# Altium footprint library SparkFun-RF.PCBLIB: 87 footprints (part 3 of 6)
Each footprint in its own frame and in the unit in brackets; x right, y up, seen from the top. Pads: shape width x height; smd on the part's side, far side on the other; paste and mask are expansions set on the pad; w line width, h text height; cw(c..) or ccw(c..) is an arc to the next point about the centre after c.
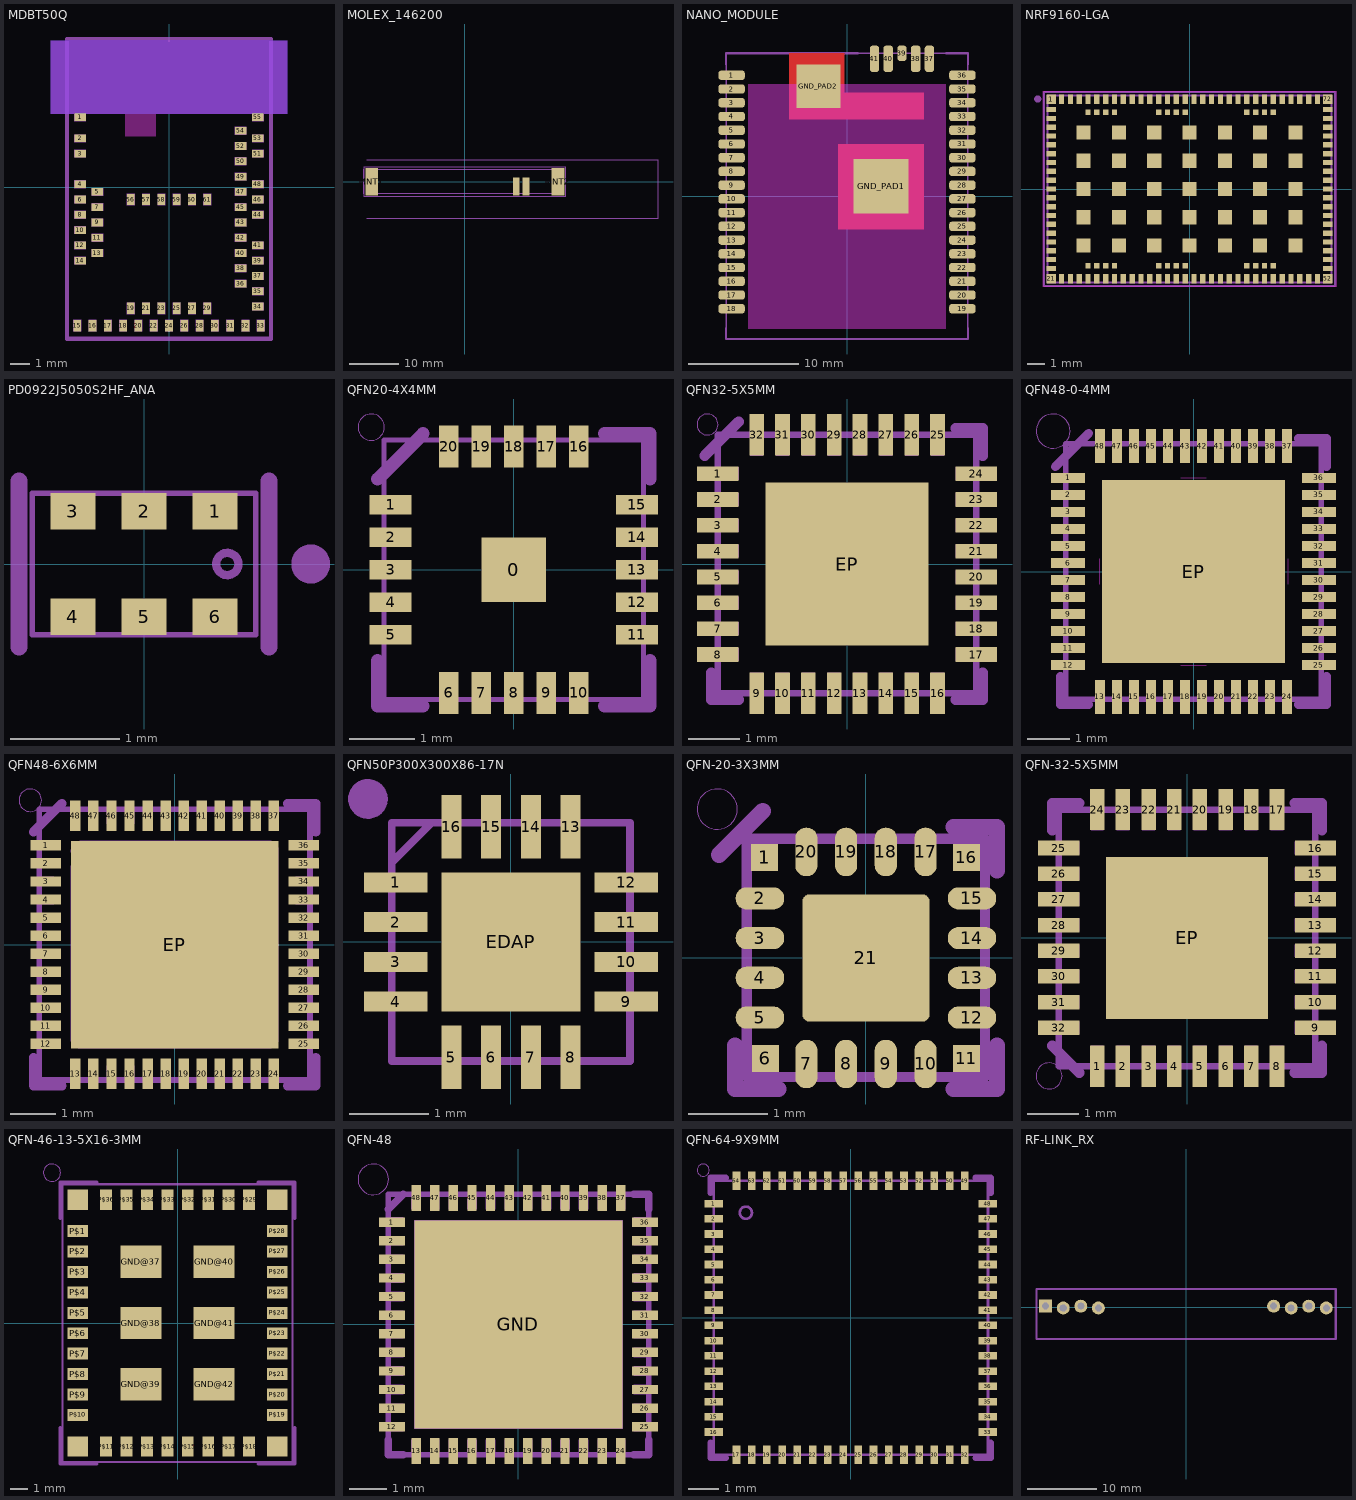
[diagram p2: the footprints below, top view; thin cyan lines are the x and y axes]

## MDBT50Q [mm]
pads (61):
  rect 0.6x0.4 smd: 1(-4.65,3.65) 2(-4.65,2.55) 3(-4.65,1.75) 4(-4.65,0.15) 5(-3.75,-0.25) 6(-4.65,-0.65) 7(-3.75,-1.05) 8(-4.65,-1.45) 9(-3.75,-1.85) 10(-4.65,-2.25) 11(-3.75,-2.65) 12(-4.65,-3.05) 13(-3.75,-3.45) 14(-4.65,-3.85) 34(4.65,-6.25) 35(4.65,-5.45) 36(3.75,-5.05) 37(4.65,-4.65) 38(3.75,-4.25) 39(4.65,-3.85) 40(3.75,-3.45) 41(4.65,-3.05) 42(3.75,-2.65) 43(3.75,-1.85) 44(4.65,-1.45) 45(3.75,-1.05) 46(4.65,-0.65) 47(3.75,-0.25) 48(4.65,0.15) 49(3.75,0.55) 50(3.75,1.35) 51(4.65,1.75) 52(3.75,2.15) 53(4.65,2.55) 54(3.75,2.95) 55(4.65,3.65)
  rect 0.4x0.6 smd: 15(-4.8,-7.25) 16(-4,-7.25) 17(-3.2,-7.25) 18(-2.4,-7.25) 19(-2,-6.35) 20(-1.6,-7.25) 21(-1.2,-6.35) 22(-0.8,-7.25) 23(-0.4,-6.35) 24(0,-7.25) 25(0.4,-6.35) 26(0.8,-7.25) 27(1.2,-6.35) 28(1.6,-7.25) 29(2,-6.35) 30(2.4,-7.25) 31(3.2,-7.25) 32(4,-7.25) 33(4.8,-7.25) 56(-2,-0.65) 57(-1.2,-0.65) 58(-0.4,-0.65) 59(0.4,-0.65) 60(1.2,-0.65) 61(2,-0.65)
Top keep-out:
  region: -6.2,3.85 -6.2,7.65 6.2,7.65 6.2,3.85
  region: -2.3,2.65 -2.3,3.85 -0.7,3.85 -0.7,2.65
Bottom keep-out:
  region: -6.2,3.85 -6.2,7.65 6.2,7.65 6.2,3.85
tDocu:
  drawing of 65 lines, arcs and shapes, not listed
tPlace:
  lines w0.203: -5.35,-7.95 -5.35,7.75 5.35,7.75 5.35,-7.95 -5.35,-7.95

## MOLEX_146200 [mm]
pads (4):
  rect 1.4x3.7 smd: FEED(12.5,-0.95) GND(10.5,-0.95)
  rect 2.6x5.6 smd: MNT1(-19,0) MNT2(19,0)
tDocu:
  lines w0.003: -20.6,-2.5 -20.6,2.5 ; -20,-7.5 39.42,-7.5 ; -20,4.5 39.42,4.5 ; 39.42,-7.427 39.42,4.5 ; 39.42,4.506 39.42,4.5 ; -20,-2.5 -20,2.5 20,2.5 20,-2.5 -20,-2.5
  text "GND KEEPOUT" at 0,-7.5 h0.94
  text "BD Edge" at -20.6,0 h0.94
  text "Board Edge" at 0,4.5 h0.94
  text "GND KEEPOUT" at 29.845,-0.896 h0.94
tPlace:
  lines w0.203: -20.533,-3.034 20.533,-3.034 20.533,3.034 -20.533,3.034 -20.533,-3.034

## NANO_MODULE [mm]
pads (43):
  rrect60% 2.4x0.85 smd: 1(-10.5,11) 2(-10.5,9.75) 3(-10.5,8.5) 4(-10.5,7.25) 5(-10.5,6) 6(-10.5,4.75) 7(-10.5,3.5) 8(-10.5,2.25) 9(-10.5,1) 10(-10.5,-0.25) 11(-10.5,-1.5) 12(-10.5,-2.75) 13(-10.5,-4) 14(-10.5,-5.25) 15(-10.5,-6.5) 16(-10.5,-7.75) 17(-10.5,-9) 18(-10.5,-10.25) 19(10.5,-10.25) 20(10.5,-9) 21(10.5,-7.75) 22(10.5,-6.5) 23(10.5,-5.25) 24(10.5,-4) 25(10.5,-2.75) 26(10.5,-1.5) 27(10.5,-0.25) 28(10.5,1) 29(10.5,2.25) 30(10.5,3.5) 31(10.5,4.75) 32(10.5,6) 33(10.5,7.25) 34(10.5,8.5) 35(10.5,9.75) 36(10.5,11)
  rrect60% 0.85x2.4 smd: 37(7.5,12.5) 38(6.25,12.5) 40(3.75,12.5) 41(2.5,12.5)
  rrect60% 0.85x1.4 smd: 39(5,13)
  rect 5x5 smd paste+0 mask+0: GND_PAD1(3.1,0.9)
  rect 4x4 smd paste+0 mask+0: GND_PAD2(-2.6,10)
Top:
  region: -0.8,4.7 7,4.7 7,-3 -0.8,-3
  region: -5.25,13 -0.25,13 -0.25,9.4 7,9.4 7,7 -5.25,7
Top keep-out:
  region: -9,-12.065 -9,10.16 9,10.16 9,-12.065
Top Paste:
  drawing of 49 lines, arcs and shapes, not listed
Top Solder:
  region: -1,-3.2 -1,4.9 7.2,4.9 7.2,-3.2
  region: -5.4,13.2 -0.1,13.2 -0.1,9.6 7.1,9.6 7.1,6.9 -5.4,6.9
tDocu:
  lines w0.127: -5.25,13 -11,13 -11,-13 11,-13 11,13 -0.25,13
  lines w0.203: -5.25,13 -0.25,13
  text "M6E-NANO" at 0,-7.7 h1.97
  text "ThingMagic" at 0,-5.97 h1.97
tPlace:
  lines w0.203: -11,-12 -11,-13 11,-13 11,-12 ; -11,12 -11,13 1,13 ; 9,13 11,13 11,12

## NRF9160-LGA [mm]
pads (161):
  rect 0.54x0.54 smd paste+0 mask+0: 1(-7.845,5.095) 21(-7.845,-5.095) 52(7.845,-5.095) 72(7.845,5.095)
  rect 0.54x0.3 smd mask+0: 2(-7.845,4.5) 3(-7.845,4) 4(-7.845,3.5) 5(-7.845,3) 6(-7.845,2.5) 7(-7.845,2) 8(-7.845,1.5) 9(-7.845,1) 10(-7.845,0.5) 11(-7.845,0) 12(-7.845,-0.5) 13(-7.845,-1) 14(-7.845,-1.5) 15(-7.845,-2) 16(-7.845,-2.5) 17(-7.845,-3) 18(-7.845,-3.5) 19(-7.845,-4) 20(-7.845,-4.5) 53(7.845,-4.5) 54(7.845,-4) 55(7.845,-3.5) 56(7.845,-3) 57(7.845,-2.5) 58(7.845,-2) 59(7.845,-1.5) 60(7.845,-1) 61(7.845,-0.5) 62(7.845,0) 63(7.845,0.5) 64(7.845,1) 65(7.845,1.5) 66(7.845,2) 67(7.845,2.5) 68(7.845,3) 69(7.845,3.5) 70(7.845,4) 71(7.845,4.5)
  rect 0.3x0.54 smd mask+0: 22(-7.25,-5.095) 23(-6.75,-5.095) 24(-6.25,-5.095) 25(-5.75,-5.095) 26(-5.25,-5.095) 27(-4.75,-5.095) 28(-4.25,-5.095) 29(-3.75,-5.095) 30(-3.25,-5.095) 31(-2.75,-5.095) 32(-2.25,-5.095) 33(-1.75,-5.095) 34(-1.25,-5.095) 35(-0.75,-5.095) 36(-0.25,-5.095) 37(0.25,-5.095) 38(0.75,-5.095) 39(1.25,-5.095) 40(1.75,-5.095) 41(2.25,-5.095) 42(2.75,-5.095) 43(3.25,-5.095) 44(3.75,-5.095) 45(4.25,-5.095) 46(4.75,-5.095) 47(5.25,-5.095) 48(5.75,-5.095) 49(6.25,-5.095) 50(6.75,-5.095) 51(7.25,-5.095) 73(7.25,5.095) 74(6.75,5.095) 75(6.25,5.095) 76(5.75,5.095) 77(5.25,5.095) 78(4.75,5.095) 79(4.25,5.095) 80(3.75,5.095) 81(3.25,5.095) 82(2.75,5.095) 83(2.25,5.095) 84(1.75,5.095) 85(1.25,5.095) 86(0.75,5.095) 87(0.25,5.095) 88(-0.25,5.095) 89(-0.75,5.095) 90(-1.25,5.095) 91(-1.75,5.095) 92(-2.25,5.095) 93(-2.75,5.095) 94(-3.25,5.095) 95(-3.75,5.095) 96(-4.25,5.095) 97(-4.75,5.095) 98(-5.25,5.095) 99(-5.75,5.095) 100(-6.25,5.095) 101(-6.75,5.095) 102(-7.25,5.095)
  rect 0.8x0.8 smd paste+0 mask+0: 103_1(-6,3.2) 103_2(-4,3.2) 103_3(-2,3.2) 103_4(0,3.2) 103_5(2,3.2) 103_6(4,3.2) 103_7(6,3.2) 103_8(-6,1.6) 103_9(-4,1.6) 103_10(-2,1.6) 103_11(0,1.6) 103_12(2,1.6) 103_13(4,1.6) 103_14(6,1.6) 103_15(-6,0) 103_16(-4,0) 103_17(-2,0) 103_18(0,0) 103_19(2,0) 103_20(4,0) 103_21(6,0) 103_22(-6,-1.6) 103_23(-4,-1.6) 103_24(-2,-1.6) 103_25(0,-1.6) 103_26(2,-1.6) 103_27(4,-1.6) 103_28(6,-1.6) 103_29(-6,-3.2) 103_30(-4,-3.2) 103_31(-2,-3.2) 103_32(0,-3.2) 103_33(2,-3.2) 103_34(4,-3.2) 103_35(6,-3.2)
  rect 0.3x0.3 smd mask+0: 104(-5.75,-4.35) 105(-5.25,-4.35) 106(-4.75,-4.35) 107(-4.25,-4.35) 108(-1.75,-4.35) 109(-1.25,-4.35) 110(-0.75,-4.35) 111(-0.25,-4.35) 112(3.25,-4.35) 113(3.75,-4.35) 114(4.25,-4.35) 115(4.75,-4.35) 116(4.75,4.35) 117(4.25,4.35) 118(3.75,4.35) 119(3.25,4.35) 120(-0.25,4.35) 121(-0.75,4.35) 122(-1.25,4.35) 123(-1.75,4.35) 124(-4.25,4.35) 125(-4.75,4.35) 126(-5.25,4.35) 127(-5.75,4.35)
Top keep-out:
  lines w0.05: -8.3,-5.55 8.3,-5.55 8.3,5.55 -8.3,5.55 -8.3,-5.55
Top Paste:
  drawing of 39 lines, arcs and shapes, not listed
Top Solder:
  drawing of 162 lines, arcs and shapes, not listed
tDocu:
  circle w0.2: c-8.6,5.1 r0.1
  lines w0.127: -8.05,-5.3 8.05,-5.3 8.05,5.3 -8.05,5.3 -8.05,-5.3
tPlace:
  circle w0.2: c-8.6,5.1 r0.1
  lines w0.127: -8.24,-5.5 8.24,-5.5 8.24,5.5 -8.24,5.5 -8.24,-5.5

## PD0922J5050S2HF_ANA [mil]
pads (6):
  rect 16.14x12.99 smd: 1(25.59,19) 2(0,19) 3(-25.59,19) 4(-25.59,-19) 5(0,-19) 6(25.59,-19)
tDocu:
  circle w3: c30,0 r4
  lines w1.97: -40.16,-25.39 -40.16,25.39 40.16,25.39 40.16,-25.39 -40.16,-25.39
tPlace:
  circle w8: c60,0 r3
  lines w6: -45,-30 -45,30 ; 45,-30 45,30

## QFN20-4X4MM [mm]
pads (21):
  rect 1x1 smd paste+0: 0(0,0)
  rect 0.65x0.3 smd paste+0: 1(-1.9,1) 2(-1.9,0.5) 3(-1.9,0) 4(-1.9,-0.5) 5(-1.9,-1) 11(1.9,-1) 12(1.9,-0.5) 13(1.9,0) 14(1.9,0.5) 15(1.9,1)
  rect 0.3x0.65 smd paste+0: 6(-1,-1.9) 7(-0.5,-1.9) 8(0,-1.9) 9(0.5,-1.9) 10(1,-1.9) 16(1,1.9) 17(0.5,1.9) 18(0,1.9) 19(-0.5,1.9) 20(-1,1.9)
Top Paste:
  region: -0.25,-0.25 -0.25,0.25 0.25,0.25 0.25,-0.25
  region: -2.095,0.902 -2.095,1.105 -1.613,1.105 -1.613,0.902
  region: -2.095,0.394 -2.095,0.597 -1.613,0.597 -1.613,0.394
  region: -2.095,-0.102 -2.095,0.102 -1.613,0.102 -1.613,-0.102
  region: -2.095,-0.597 -2.095,-0.394 -1.613,-0.394 -1.613,-0.597
  region: -2.095,-1.105 -2.095,-0.902 -1.613,-0.902 -1.613,-1.105
  region: 1.613,0.902 1.613,1.105 2.095,1.105 2.095,0.902
  region: 1.613,0.394 1.613,0.597 2.095,0.597 2.095,0.394
  region: 1.613,-0.102 1.613,0.102 2.095,0.102 2.095,-0.102
  region: 1.613,-0.597 1.613,-0.394 2.095,-0.394 2.095,-0.597
  region: 1.613,-1.105 1.613,-0.902 2.095,-0.902 2.095,-1.105
  region: -0.902,1.613 -1.105,1.613 -1.105,2.095 -0.902,2.095
  region: -0.394,1.613 -0.597,1.613 -0.597,2.095 -0.394,2.095
  region: 0.102,1.613 -0.102,1.613 -0.102,2.095 0.102,2.095
  region: 0.597,1.613 0.394,1.613 0.394,2.095 0.597,2.095
  region: 1.105,1.613 0.902,1.613 0.902,2.095 1.105,2.095
  region: -0.902,-2.095 -1.105,-2.095 -1.105,-1.613 -0.902,-1.613
  region: -0.394,-2.095 -0.597,-2.095 -0.597,-1.613 -0.394,-1.613
  region: 0.102,-2.095 -0.102,-2.095 -0.102,-1.613 0.102,-1.613
  region: 0.597,-2.095 0.394,-2.095 0.394,-1.613 0.597,-1.613
  region: 1.105,-2.095 0.902,-2.095 0.902,-1.613 1.105,-1.613
tDocu:
  lines w0.076: -2,-2 -2,2 2,2 2,-2 -2,-2
tPlace:
  circle w0: c-2.2,2.2 r0.203
  lines w0.203: -2.1,-1.4 -2.1,-2.1 -1.4,-2.1 ; -2.1,1.4 -1.4,2.1 ; 1.4,-2.1 2.1,-2.1 2.1,-1.4 ; 1.4,2.1 2.1,2.1 2.1,1.4

## QFN32-5X5MM [mil]
pads (33):
  rect 31.5x11.2 smd: 1(-98.43,68.9) 2(-98.43,49.21) 3(-98.43,29.53) 4(-98.43,9.84) 5(-98.43,-9.84) 6(-98.43,-29.53) 7(-98.43,-49.21) 8(-98.43,-68.9) 17(98.43,-68.9) 18(98.43,-49.21) 19(98.43,-29.53) 20(98.43,-9.84) 21(98.43,9.84) 22(98.43,29.53) 23(98.43,49.21) 24(98.43,68.9)
  rect 11.2x31.5 smd: 9(-68.9,-98.43) 10(-49.21,-98.43) 11(-29.53,-98.43) 12(-9.84,-98.43) 13(9.84,-98.43) 14(29.53,-98.43) 15(49.21,-98.43) 16(68.9,-98.43) 25(68.9,98.43) 26(49.21,98.43) 27(29.53,98.43) 28(9.84,98.43) 29(-9.84,98.43) 30(-29.53,98.43) 31(-49.21,98.43) 32(-68.9,98.43)
  rect 124.02x124.02 smd paste+0: EP(0,0)
Top Paste:
  region: -57.09,5.91 -57.09,57.09 -5.91,57.09 -5.91,5.91
  region: 5.91,57.09 57.09,57.09 57.09,5.91 5.91,5.91
  region: -5.91,-57.09 -57.09,-57.09 -57.09,-5.91 -5.91,-5.91
  region: 57.09,-5.91 57.09,-57.09 5.91,-57.09 5.91,-5.91
tDocu:
  region: 5.12,98.43 14.57,98.43 14.57,82.68 5.12,82.68
  region: -14.57,98.43 -5.12,98.43 -5.12,82.68 -14.57,82.68
  region: -34.25,98.43 -24.8,98.43 -24.8,82.68 -34.25,82.68
  region: -53.94,98.43 -44.49,98.43 -44.49,82.68 -53.94,82.68
  region: -73.62,98.43 -64.17,98.43 -64.17,82.68 -73.62,82.68
  region: 24.8,98.43 34.25,98.43 34.25,82.68 24.8,82.68
  region: 44.49,98.43 53.94,98.43 53.94,82.68 44.49,82.68
  region: 64.17,98.43 73.62,98.43 73.62,82.68 64.17,82.68
  region: 98.43,-5.12 98.43,-14.57 82.68,-14.57 82.68,-5.12
  region: 98.43,14.57 98.43,5.12 82.68,5.12 82.68,14.57
  region: 98.43,34.25 98.43,24.8 82.68,24.8 82.68,34.25
  region: 98.43,53.94 98.43,44.49 82.68,44.49 82.68,53.94
  region: 98.43,73.62 98.43,64.17 82.68,64.17 82.68,73.62
  region: 98.43,-24.8 98.43,-34.25 82.68,-34.25 82.68,-24.8
  region: 98.43,-44.49 98.43,-53.94 82.68,-53.94 82.68,-44.49
  region: 98.43,-64.17 98.43,-73.62 82.68,-73.62 82.68,-64.17
  region: -98.43,5.12 -98.43,14.57 -82.68,14.57 -82.68,5.12
  region: -98.43,-14.57 -98.43,-5.12 -82.68,-5.12 -82.68,-14.57
  region: -98.43,-34.25 -98.43,-24.8 -82.68,-24.8 -82.68,-34.25
  region: -98.43,-53.94 -98.43,-44.49 -82.68,-44.49 -82.68,-53.94
  region: -98.43,-73.62 -98.43,-64.17 -82.68,-64.17 -82.68,-73.62
  region: -98.43,24.8 -98.43,34.25 -82.68,34.25 -82.68,24.8
  region: -98.43,44.49 -98.43,53.94 -82.68,53.94 -82.68,44.49
  region: -98.43,64.17 -98.43,73.62 -82.68,73.62 -82.68,64.17
  region: -5.12,-98.43 -14.57,-98.43 -14.57,-82.68 -5.12,-82.68
  region: 14.57,-98.43 5.12,-98.43 5.12,-82.68 14.57,-82.68
  region: 34.25,-98.43 24.8,-98.43 24.8,-82.68 34.25,-82.68
  region: 53.94,-98.43 44.49,-98.43 44.49,-82.68 53.94,-82.68
  region: 73.62,-98.43 64.17,-98.43 64.17,-82.68 73.62,-82.68
  region: -24.8,-98.43 -34.25,-98.43 -34.25,-82.68 -24.8,-82.68
  region: -44.49,-98.43 -53.94,-98.43 -53.94,-82.68 -44.49,-82.68
  region: -64.17,-98.43 -73.62,-98.43 -73.62,-82.68 -64.17,-82.68
  lines w5: -98.43,-98.43 -98.43,98.43 98.43,98.43 98.43,-98.43 -98.43,-98.43
tPlace:
  circle w0: c-106.3,106.3 r8
  lines w8: -108.43,82.68 -82.68,108.43 ; -103.43,-82.68 -103.43,-103.43 -82.68,-103.43 ; 82.68,-103.43 103.43,-103.43 103.43,-82.68 ; 82.68,103.43 103.43,103.43 103.43,82.68

## QFN48-0-4MM [mil]
pads (49):
  rect 31.5x9.06 smd: 1(-116.14,86.61) 2(-116.14,70.87) 3(-116.14,55.12) 4(-116.14,39.37) 5(-116.14,23.62) 6(-116.14,7.87) 7(-116.14,-7.87) 8(-116.14,-23.62) 9(-116.14,-39.37) 10(-116.14,-55.12) 11(-116.14,-70.87) 12(-116.14,-86.61) 25(116.14,-86.61) 26(116.14,-70.87) 27(116.14,-55.12) 28(116.14,-39.37) 29(116.14,-23.62) 30(116.14,-7.87) 31(116.14,7.87) 32(116.14,23.62) 33(116.14,39.37) 34(116.14,55.12) 35(116.14,70.87) 36(116.14,86.61)
  rect 9.06x31.5 smd: 13(-86.61,-116.14) 14(-70.87,-116.14) 15(-55.12,-116.14) 16(-39.37,-116.14) 17(-23.62,-116.14) 18(-7.87,-116.14) 19(7.87,-116.14) 20(23.62,-116.14) 21(39.37,-116.14) 22(55.12,-116.14) 23(70.87,-116.14) 24(86.61,-116.14) 37(86.61,116.14) 38(70.87,116.14) 39(55.12,116.14) 40(39.37,116.14) 41(23.62,116.14) 42(7.87,116.14) 43(-7.87,116.14) 44(-23.62,116.14) 45(-39.37,116.14) 46(-55.12,116.14) 47(-70.87,116.14) 48(-86.61,116.14)
  rect 169.29x169.29 smd paste+0: EP(0,0)
Top keep-out:
  lines w1: -87,-12 -87,12 ; -12,-87 12,-87 ; -12,87 12,87 ; 87,-12 87,12
Top Paste:
  region: 12.4,12.4 12.4,72.25 72.25,72.25 72.25,12.4
  region: -12.4,12.4 -72.25,12.4 -72.25,72.25 -12.4,72.25
  region: -12.4,-12.4 -12.4,-72.25 -72.25,-72.25 -72.25,-12.4
  region: 12.4,-12.4 72.25,-12.4 72.25,-72.25 12.4,-72.25
tDocu:
  drawing of 53 lines, arcs and shapes, not listed
tPlace:
  circle w0: c-130,130 r15.81
  lines w8: -128.11,96.89 -96.89,128.11 ; -123.11,-96.89 -123.11,-123.11 -96.89,-123.11 ; 96.89,-123.11 123.11,-123.11 123.11,-96.89 ; 96.89,123.11 123.11,123.11 123.11,96.89

## QFN48-6X6MM [mm]
pads (49):
  rect 0.68x0.23 smd paste+0: 1(-2.86,2.2) 2(-2.86,1.8) 3(-2.86,1.4) 4(-2.86,1) 5(-2.86,0.6) 6(-2.86,0.2) 7(-2.86,-0.2) 8(-2.86,-0.6) 9(-2.86,-1) 10(-2.86,-1.4) 11(-2.86,-1.8) 12(-2.86,-2.2) 25(2.86,-2.2) 26(2.86,-1.8) 27(2.86,-1.4) 28(2.86,-1) 29(2.86,-0.6) 30(2.86,-0.2) 31(2.86,0.2) 32(2.86,0.6) 33(2.86,1) 34(2.86,1.4) 35(2.86,1.8) 36(2.86,2.2)
  rect 0.23x0.68 smd paste+0: 13(-2.2,-2.86) 14(-1.8,-2.86) 15(-1.4,-2.86) 16(-1,-2.86) 17(-0.6,-2.86) 18(-0.2,-2.86) 19(0.2,-2.86) 20(0.6,-2.86) 21(1,-2.86) 22(1.4,-2.86) 23(1.8,-2.86) 24(2.2,-2.86) 37(2.2,2.86) 38(1.8,2.86) 39(1.4,2.86) 40(1,2.86) 41(0.6,2.86) 42(0.2,2.86) 43(-0.2,2.86) 44(-0.6,2.86) 45(-1,2.86) 46(-1.4,2.86) 47(-1.8,2.86) 48(-2.2,2.86)
  rect 4.6x4.6 smd paste+0: EP(0,0)
Top Paste:
  drawing of 52 lines, arcs and shapes, not listed
tDocu:
  drawing of 53 lines, arcs and shapes, not listed
tPlace:
  circle w0: c-3.2,3.2 r0.25
  lines w0.203: -3.127,-2.5 -3.127,-3.127 -2.5,-3.127 ; -3.127,2.5 -2.5,3.127 ; 2.5,-3.127 3.127,-3.127 3.127,-2.5 ; 2.5,3.127 3.127,3.127 3.127,2.5

## QFN50P300X300X86-17N [mil]
pads (17):
  rect 31.5x9.84 smd: 1(-57.09,29.53) 2(-57.09,9.84) 3(-57.09,-9.84) 4(-57.09,-29.53) 9(57.09,-29.53) 10(57.09,-9.84) 11(57.09,9.84) 12(57.09,29.53)
  rect 9.84x31.5 smd: 5(-29.53,-57.09) 6(-9.84,-57.09) 7(9.84,-57.09) 8(29.53,-57.09) 13(29.53,57.09) 14(9.84,57.09) 15(-9.84,57.09) 16(-29.53,57.09)
  rect 68.9x68.9 smd paste+0: EDAP(0,0)
Top Paste:
  region: -31.5,7.87 -31.5,31.5 -7.87,31.5 -7.87,7.87
  region: 7.87,7.87 7.87,31.5 31.5,31.5 31.5,7.87
  region: 7.87,-31.5 7.87,-7.87 31.5,-7.87 31.5,-31.5
  region: -31.5,-31.5 -31.5,-7.87 -7.87,-7.87 -7.87,-31.5
tDocu:
  lines w3.94: -59.06,39.37 -39.37,59.06 ; -59.06,-59.06 59.06,-59.06 59.06,59.06 -59.06,59.06 -59.06,-59.06
tPlace:
  circle w9.84: c-70.87,70.87 r4.92
  lines w3.94: -59.06,-43.31 -59.06,-59.06 -43.31,-59.06 ; -57.09,41.34 -41.34,57.09 ; 43.31,-59.06 59.06,-59.06 59.06,-43.31 ; 43.31,59.06 59.06,59.06 59.06,43.31

## QFN-20-3X3MM [mm]
pads (21):
  rect 0.34x0.34 smd: 1(-1.275,1.265) 6(-1.265,-1.265) 11(1.265,-1.265) 16(1.265,1.265)
  rrect95% 0.61x0.28 smd: 2(-1.335,0.75) 3(-1.335,0.25) 4(-1.335,-0.25) 5(-1.335,-0.75) 12(1.335,-0.75) 13(1.335,-0.25) 14(1.335,0.25) 15(1.335,0.75)
  rrect95% 0.28x0.61 smd: 7(-0.75,-1.335) 8(-0.25,-1.335) 9(0.25,-1.335) 10(0.75,-1.335) 17(0.75,1.335) 18(0.25,1.335) 19(-0.25,1.335) 20(-0.75,1.335)
  rrect10% 1.6x1.6 smd paste+0 mask+0: 21(0,0)
Top Paste:
  region: -0.699,0.101 -0.699,0.676 -0.111,0.676 -0.111,0.101
  region: 0.049,0.104 0.049,0.676 0.66,0.676 0.66,0.104
  region: 0.046,-0.679 0.046,-0.072 0.656,-0.072 0.656,-0.679
  region: -0.692,-0.676 -0.692,-0.062 -0.098,-0.062 -0.098,-0.676
Top Solder:
  region: 0.73,0.73 0.73,-0.73 -0.73,-0.73 -0.73,0.73
tDocu:
  lines w0.127: -1.5,-1.5 1.5,-1.5 1.5,1.5 -1.5,1.5 -1.5,-1.5
tPlace:
  circle w0: c-1.873,1.873 r0.254
  lines w0.203: -1.85,1.3 -1.3,1.85 ; -1.65,-1.1 -1.65,-1.65 -1.1,-1.65 ; 1.1,-1.65 1.65,-1.65 1.65,-1.1 ; 1.1,1.65 1.65,1.65 1.65,1.1

## QFN-32-5X5MM [mil]
pads (33):
  rect 11.2x31.5 smd: 1(-68.9,-98.43) 2(-49.21,-98.43) 3(-29.53,-98.43) 4(-9.84,-98.43) 5(9.84,-98.43) 6(29.53,-98.43) 7(49.21,-98.43) 8(68.9,-98.43) 17(68.9,98.43) 18(49.21,98.43) 19(29.53,98.43) 20(9.84,98.43) 21(-9.84,98.43) 22(-29.53,98.43) 23(-49.21,98.43) 24(-68.9,98.43)
  rect 31.5x11.2 smd: 9(98.43,-68.9) 10(98.43,-49.21) 11(98.43,-29.53) 12(98.43,-9.84) 13(98.43,9.84) 14(98.43,29.53) 15(98.43,49.21) 16(98.43,68.9) 25(-98.43,68.9) 26(-98.43,49.21) 27(-98.43,29.53) 28(-98.43,9.84) 29(-98.43,-9.84) 30(-98.43,-29.53) 31(-98.43,-49.21) 32(-98.43,-68.9)
  rect 124.02x124.02 smd paste+0: EP(0,0)
Top Paste:
  region: -57.09,5.91 -57.09,57.09 -5.91,57.09 -5.91,5.91
  region: 5.91,57.09 57.09,57.09 57.09,5.91 5.91,5.91
  region: -5.91,-57.09 -57.09,-57.09 -57.09,-5.91 -5.91,-5.91
  region: 57.09,-5.91 57.09,-57.09 5.91,-57.09 5.91,-5.91
tDocu:
  region: -98.43,5.12 -98.43,14.57 -82.68,14.57 -82.68,5.12
  region: -98.43,-14.57 -98.43,-5.12 -82.68,-5.12 -82.68,-14.57
  region: -98.43,-34.25 -98.43,-24.8 -82.68,-24.8 -82.68,-34.25
  region: -98.43,-53.94 -98.43,-44.49 -82.68,-44.49 -82.68,-53.94
  region: -98.43,-73.62 -98.43,-64.17 -82.68,-64.17 -82.68,-73.62
  region: -98.43,24.8 -98.43,34.25 -82.68,34.25 -82.68,24.8
  region: -98.43,44.49 -98.43,53.94 -82.68,53.94 -82.68,44.49
  region: -98.43,64.17 -98.43,73.62 -82.68,73.62 -82.68,64.17
  region: 5.12,98.43 14.57,98.43 14.57,82.68 5.12,82.68
  region: -14.57,98.43 -5.12,98.43 -5.12,82.68 -14.57,82.68
  region: -34.25,98.43 -24.8,98.43 -24.8,82.68 -34.25,82.68
  region: -53.94,98.43 -44.49,98.43 -44.49,82.68 -53.94,82.68
  region: -73.62,98.43 -64.17,98.43 -64.17,82.68 -73.62,82.68
  region: 24.8,98.43 34.25,98.43 34.25,82.68 24.8,82.68
  region: 44.49,98.43 53.94,98.43 53.94,82.68 44.49,82.68
  region: 64.17,98.43 73.62,98.43 73.62,82.68 64.17,82.68
  region: -5.12,-98.43 -14.57,-98.43 -14.57,-82.68 -5.12,-82.68
  region: 14.57,-98.43 5.12,-98.43 5.12,-82.68 14.57,-82.68
  region: 34.25,-98.43 24.8,-98.43 24.8,-82.68 34.25,-82.68
  region: 53.94,-98.43 44.49,-98.43 44.49,-82.68 53.94,-82.68
  region: 73.62,-98.43 64.17,-98.43 64.17,-82.68 73.62,-82.68
  region: -24.8,-98.43 -34.25,-98.43 -34.25,-82.68 -24.8,-82.68
  region: -44.49,-98.43 -53.94,-98.43 -53.94,-82.68 -44.49,-82.68
  region: -64.17,-98.43 -73.62,-98.43 -73.62,-82.68 -64.17,-82.68
  region: 98.43,-5.12 98.43,-14.57 82.68,-14.57 82.68,-5.12
  region: 98.43,14.57 98.43,5.12 82.68,5.12 82.68,14.57
  region: 98.43,34.25 98.43,24.8 82.68,24.8 82.68,34.25
  region: 98.43,53.94 98.43,44.49 82.68,44.49 82.68,53.94
  region: 98.43,73.62 98.43,64.17 82.68,64.17 82.68,73.62
  region: 98.43,-24.8 98.43,-34.25 82.68,-34.25 82.68,-24.8
  region: 98.43,-44.49 98.43,-53.94 82.68,-53.94 82.68,-44.49
  region: 98.43,-64.17 98.43,-73.62 82.68,-73.62 82.68,-64.17
  lines w5: -98.43,-98.43 98.43,-98.43 98.43,98.43 -98.43,98.43 -98.43,-98.43
tPlace:
  circle w0: c-105.87,-105.87 r10
  lines w8: -103.43,-82.68 -82.68,-103.43 ; -103.43,82.68 -103.43,103.43 -82.68,103.43 ; 82.68,-103.43 103.43,-103.43 103.43,-82.68 ; 82.68,103.43 103.43,103.43 103.43,82.68

## QFN-46-13-5X16-3MM [mm]
pads (46):
  rect 2.4x1.9 smd: GND@37(-2.15,3.6) GND@38(-2.15,0) GND@39(-2.15,-3.6) GND@40(2.15,3.6) GND@41(2.15,0) GND@42(2.15,-3.6)
  rect 1.2x1.2 smd: GND@43(-5.85,7.25) GND@44(-5.85,-7.25) GND@45(5.85,-7.25) GND@46(5.85,7.25)
  rect 1.2x0.7 smd: P$1(-5.85,5.4) P$2(-5.85,4.2) P$3(-5.85,3) P$4(-5.85,1.8) P$5(-5.85,0.6) P$6(-5.85,-0.6) P$7(-5.85,-1.8) P$8(-5.85,-3) P$9(-5.85,-4.2) P$10(-5.85,-5.4) P$19(5.85,-5.4) P$20(5.85,-4.2) P$21(5.85,-3) P$22(5.85,-1.8) P$23(5.85,-0.6) P$24(5.85,0.6) P$25(5.85,1.8) P$26(5.85,3) P$27(5.85,4.2) P$28(5.85,5.4)
  rect 0.7x1.2 smd: P$11(-4.2,-7.25) P$12(-3,-7.25) P$13(-1.8,-7.25) P$14(-0.6,-7.25) P$15(0.6,-7.25) P$16(1.8,-7.25) P$17(3,-7.25) P$18(4.2,-7.25) P$29(4.2,7.25) P$30(3,7.25) P$31(1.8,7.25) P$32(0.6,7.25) P$33(-0.6,7.25) P$34(-1.8,7.25) P$35(-3,7.25) P$36(-4.2,7.25)
tDocu:
  lines w0.127: -6.75,-8.15 6.75,-8.15 6.75,8.15 -6.75,8.15 -6.75,-8.15
tPlace:
  circle w0: c-7.375,8.829 r0.508
  lines w0.203: -6.877,-6.15 -6.877,-8.277 -4.75,-8.277 ; -6.877,6.15 -6.877,8.277 -4.75,8.277 ; 4.75,-8.277 6.877,-8.277 6.877,-6.15 ; 4.75,8.277 6.877,8.277 6.877,6.15

## QFN-48 [mm]
pads (49):
  rect 0.7x0.25 smd: 1(-3.4,2.75) 2(-3.4,2.25) 3(-3.4,1.75) 4(-3.4,1.25) 5(-3.4,0.75) 6(-3.4,0.25) 7(-3.4,-0.25) 8(-3.4,-0.75) 9(-3.4,-1.25) 10(-3.4,-1.75) 11(-3.4,-2.25) 12(-3.4,-2.75) 25(3.4,-2.75) 26(3.4,-2.25) 27(3.4,-1.75) 28(3.4,-1.25) 29(3.4,-0.75) 30(3.4,-0.25) 31(3.4,0.25) 32(3.4,0.75) 33(3.4,1.25) 34(3.4,1.75) 35(3.4,2.25) 36(3.4,2.75)
  rect 0.25x0.7 smd: 13(-2.75,-3.4) 14(-2.25,-3.4) 15(-1.75,-3.4) 16(-1.25,-3.4) 17(-0.75,-3.4) 18(-0.25,-3.4) 19(0.25,-3.4) 20(0.75,-3.4) 21(1.25,-3.4) 22(1.75,-3.4) 23(2.25,-3.4) 24(2.75,-3.4) 37(2.75,3.4) 38(2.25,3.4) 39(1.75,3.4) 40(1.25,3.4) 41(0.75,3.4) 42(0.25,3.4) 43(-0.25,3.4) 44(-0.75,3.4) 45(-1.25,3.4) 46(-1.75,3.4) 47(-2.25,3.4) 48(-2.75,3.4)
  rect 5.6x5.6 smd paste+0: GND(0,0)
Top Paste:
  region: -2,1 -2,2 -0.5,2 -0.5,1
  region: 0.5,1 0.5,2 2,2 2,1
  region: 0.5,-2 0.5,-1 2,-1 2,-2
  region: -2,-2 -2,-1 -0.5,-1 -0.5,-2
  region: -2,-0.5 -2,0.5 -0.5,0.5 -0.5,-0.5
  region: 0.5,-0.5 0.5,0.5 2,0.5 2,-0.5
tDocu:
  drawing of 53 lines, arcs and shapes, not listed
tPlace:
  circle w0: c-3.9,3.9 r0.412
  lines w0.203: -3.5,-3.1 -3.5,-3.5 -3.1,-3.5 ; -3.5,3.1 -3.1,3.5 ; 3.1,-3.5 3.5,-3.5 3.5,-3.1 ; 3.1,3.5 3.5,3.5 3.5,3.1

## QFN-64-9X9MM [mm]
pads (64):
  rect 0.6x0.25 smd: 1(-4.5,3.75) 2(-4.5,3.25) 3(-4.5,2.75) 4(-4.5,2.25) 5(-4.5,1.75) 6(-4.5,1.25) 7(-4.5,0.75) 8(-4.5,0.25) 9(-4.5,-0.25) 10(-4.5,-0.75) 11(-4.5,-1.25) 12(-4.5,-1.75) 13(-4.5,-2.25) 14(-4.5,-2.75) 15(-4.5,-3.25) 16(-4.5,-3.75) 33(4.5,-3.75) 34(4.5,-3.25) 35(4.5,-2.75) 36(4.5,-2.25) 37(4.5,-1.75) 38(4.5,-1.25) 39(4.5,-0.75) 40(4.5,-0.25) 41(4.5,0.25) 42(4.5,0.75) 43(4.5,1.25) 44(4.5,1.75) 45(4.5,2.25) 46(4.5,2.75) 47(4.5,3.25) 48(4.5,3.75)
  rect 0.25x0.6 smd: 17(-3.75,-4.5) 18(-3.25,-4.5) 19(-2.75,-4.5) 20(-2.25,-4.5) 21(-1.75,-4.5) 22(-1.25,-4.5) 23(-0.75,-4.5) 24(-0.25,-4.5) 25(0.25,-4.5) 26(0.75,-4.5) 27(1.25,-4.5) 28(1.75,-4.5) 29(2.25,-4.5) 30(2.75,-4.5) 31(3.25,-4.5) 32(3.75,-4.5) 49(3.75,4.5) 50(3.25,4.5) 51(2.75,4.5) 52(2.25,4.5) 53(1.75,4.5) 54(1.25,4.5) 55(0.75,4.5) 56(0.25,4.5) 57(-0.25,4.5) 58(-0.75,4.5) 59(-1.25,4.5) 60(-1.75,4.5) 61(-2.25,4.5) 62(-2.75,4.5) 63(-3.25,4.5) 64(-3.75,4.5)
tDocu:
  circle w0.09: c-3.442,3.45 r0.2
  lines w0.09: -4.492,-4.5 4.508,-4.5 4.508,4.5 -4.492,4.5 -4.492,-4.5
tPlace:
  circle w0: c-4.842,4.85 r0.2
  lines w0.203: -4.6,-4.1 -4.6,-4.6 -4.1,-4.6 ; -4.6,4.1 -4.6,4.6 -4.1,4.6 ; 4.1,-4.6 4.6,-4.6 4.6,-4.1 ; 4.1,4.6 4.6,4.6 4.6,4.1

## RF-LINK_RX [mil]
pads (8):
  round 74 hole 40: +5V@1(-500,-5) +5V@2(500,5) ANT(800,-5) DATA@1(-700,-5) DATA@2(-600,5) GND@2(600,-5) GND@3(700,5)
  rect 74x74 / inner round 68.37 / far side rect 74x74 hole 40: GND@1(-800,5)
tDocu:
  region: -510,-10 -510,10 -490,10 -490,-10
  region: -610,-10 -610,10 -590,10 -590,-10
  region: -710,-10 -710,10 -690,10 -690,-10
  region: -810,-10 -810,10 -790,10 -790,-10
  region: 790,-10 790,10 810,10 810,-10
  region: 690,-10 690,10 710,10 710,-10
  region: 590,-10 590,10 610,10 610,-10
  region: 490,-10 490,10 510,10 510,-10
  lines w5: -850.39,-177.17 -850.39,98.43 850.39,98.43 850.39,-177.17 -850.39,-177.17
tPlace:
  lines w8: -855.39,-182.17 855.39,-182.17 855.39,103.43 -855.39,103.43 -855.39,-182.17
  text "GND" at -800,-50 h34
  text "DOUT" at -700,-50 h27.2
  text "LOUT" at -600,-50 h27.2
  text "VCC" at -500,-50 h34
  text "VCC" at 500,-50 h34
  text "GND" at 600,-50 h34
  text "GND" at 700,-50 h34
  text "ANT" at 800,-50 h34